# EAGLE library part SST25VF064C (library MyComponents)
64 Mbit SPI Serial Dual I/O Flash
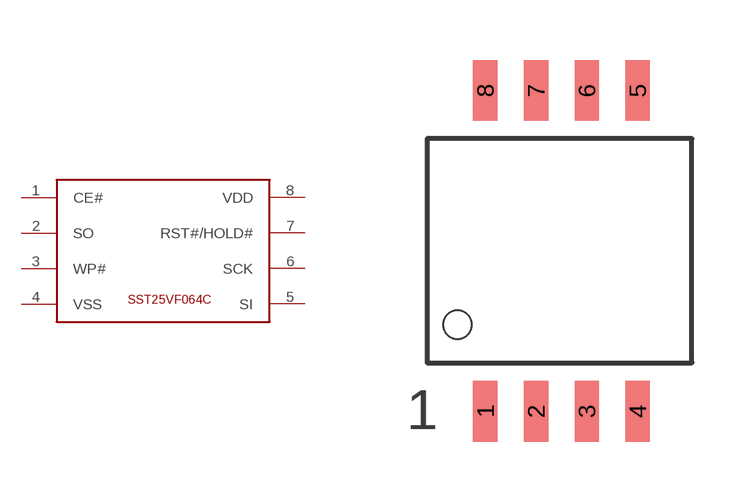
[diagram p5: symbol with the pads of SO8W; footprint SO8W]

Designator prefix -

## SST25VF064C  [SO8W]
1  CE#
2  SO
3  WP#
4  VSS
5  SI
6  SCK
7  RST#/HOLD#
8  VDD

## Footprint SO8W (pad centres in mm)
SO8 wide body (6mm body)
smd 0.61 x 1.524: 1 -1.27,-4.013; 2 0,-4.013; 3 1.27,-4.013; 4 2.54,-4.013; 5 2.54,4.013; 6 1.27,4.013; 7 0,4.013; 8 -1.27,4.013